# EAGLE library part SST25WF040BT-40I/NP (library Memory)
IC FLASH 4M SPI 40MHZ 8USON Manufacturer's datasheet <http://ww1.microchip.com/downloads/en/DeviceDoc/SST25WF040B-4-Mbit-1.8V-SPI-Serial-Flash-Data-Sheet-DS20005193E.pdf>
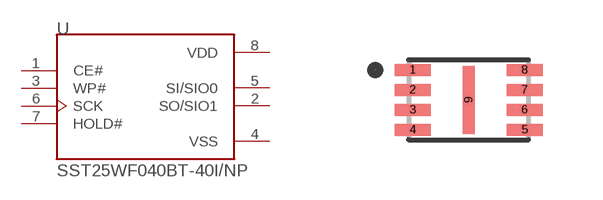
[diagram p5: symbol with the pads of USON-8; footprint USON-8]

Designator prefix U

## SST25WF040BT-40I/NP (CREATED_BY: PCBLayout.com; DIGIKEY_PART_NUMBER: SST25WF040BT-40I/NPCT-ND; MANUFACTURER: Microchip Technology; MPN: SST25WF040BT-40I/NP; PACKAGE: 8-USON)  [USON-8]
1  CE#  in
2  SO/SIO1
3  WP#  in
4  VSS  pwr
5  SI/SIO0
6  SCK  in
7  HOLD#  in
8  VDD  pwr

## Footprint USON-8 (pad centres in mm)
smd 0.9 x 0.3: 1 -1.4,0.75; 2 -1.4,0.25; 3 -1.4,-0.25; 4 -1.4,-0.75; 5 1.4,-0.75; 6 1.4,-0.25; 7 1.4,0.25; 8 1.4,0.75
smd 0.3 x 1.7: 9 0,0